# Altium footprint library RMOTHT(d5l12)PCM15.PcbLib: 1 footprints
Each footprint in its own frame and in the unit in brackets; x right, y up, seen from the top. Pads: shape width x height; smd on the part's side, far side on the other; paste and mask are expansions set on the pad; w line width, h text height; cw(c..) or ccw(c..) is an arc to the next point about the centre after c.
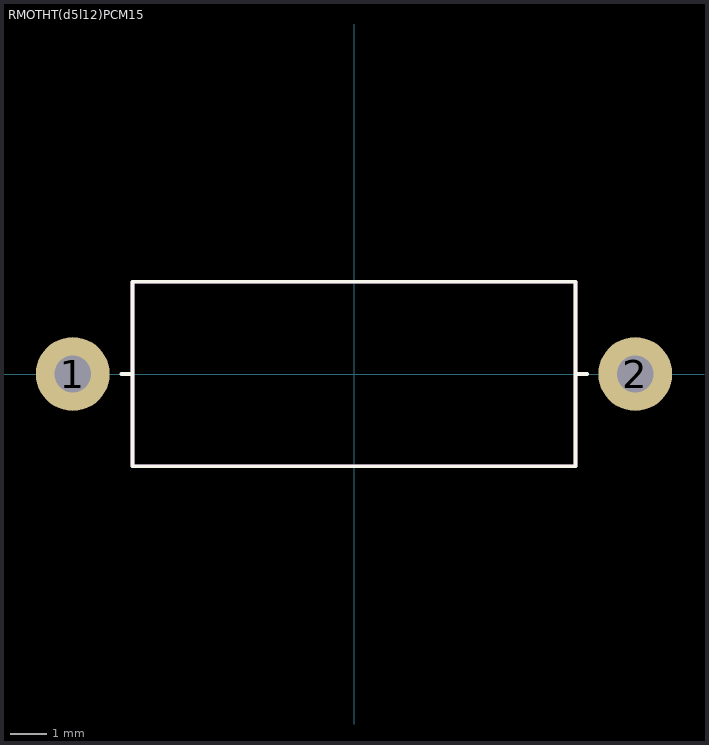
[diagram p0: the footprint, top view; thin cyan lines are the x and y axes]

## RMOTHT(d5l12)PCM15 [mm] "Res metal oxide d5 l12 PCM15"
pads (2):
  round 2 hole 1: 1(-7.62,0) 2(7.62,0)
Top Overlay:
  lines w0.1: -6.3,0 -6,0 ; 6,0 6.313,0 ; -6,-2.5 -6,2.5 6,2.5 6,-2.5 -6,-2.5
Top Assembly:
  lines w0.1: -6,-2.5 -6,2.5 6,2.5 6,-2.5 -6,-2.5
3D body "R1W MO 600.SLDPRT": height 5, standoff -2.54, extent -7.918,-2.5 7.918,2.5